# Altium integrated library Linear Technology Power Management Switching Regulator LTC1174-LTC3901.IntLib: 2647 symbols (part 133 of 364)
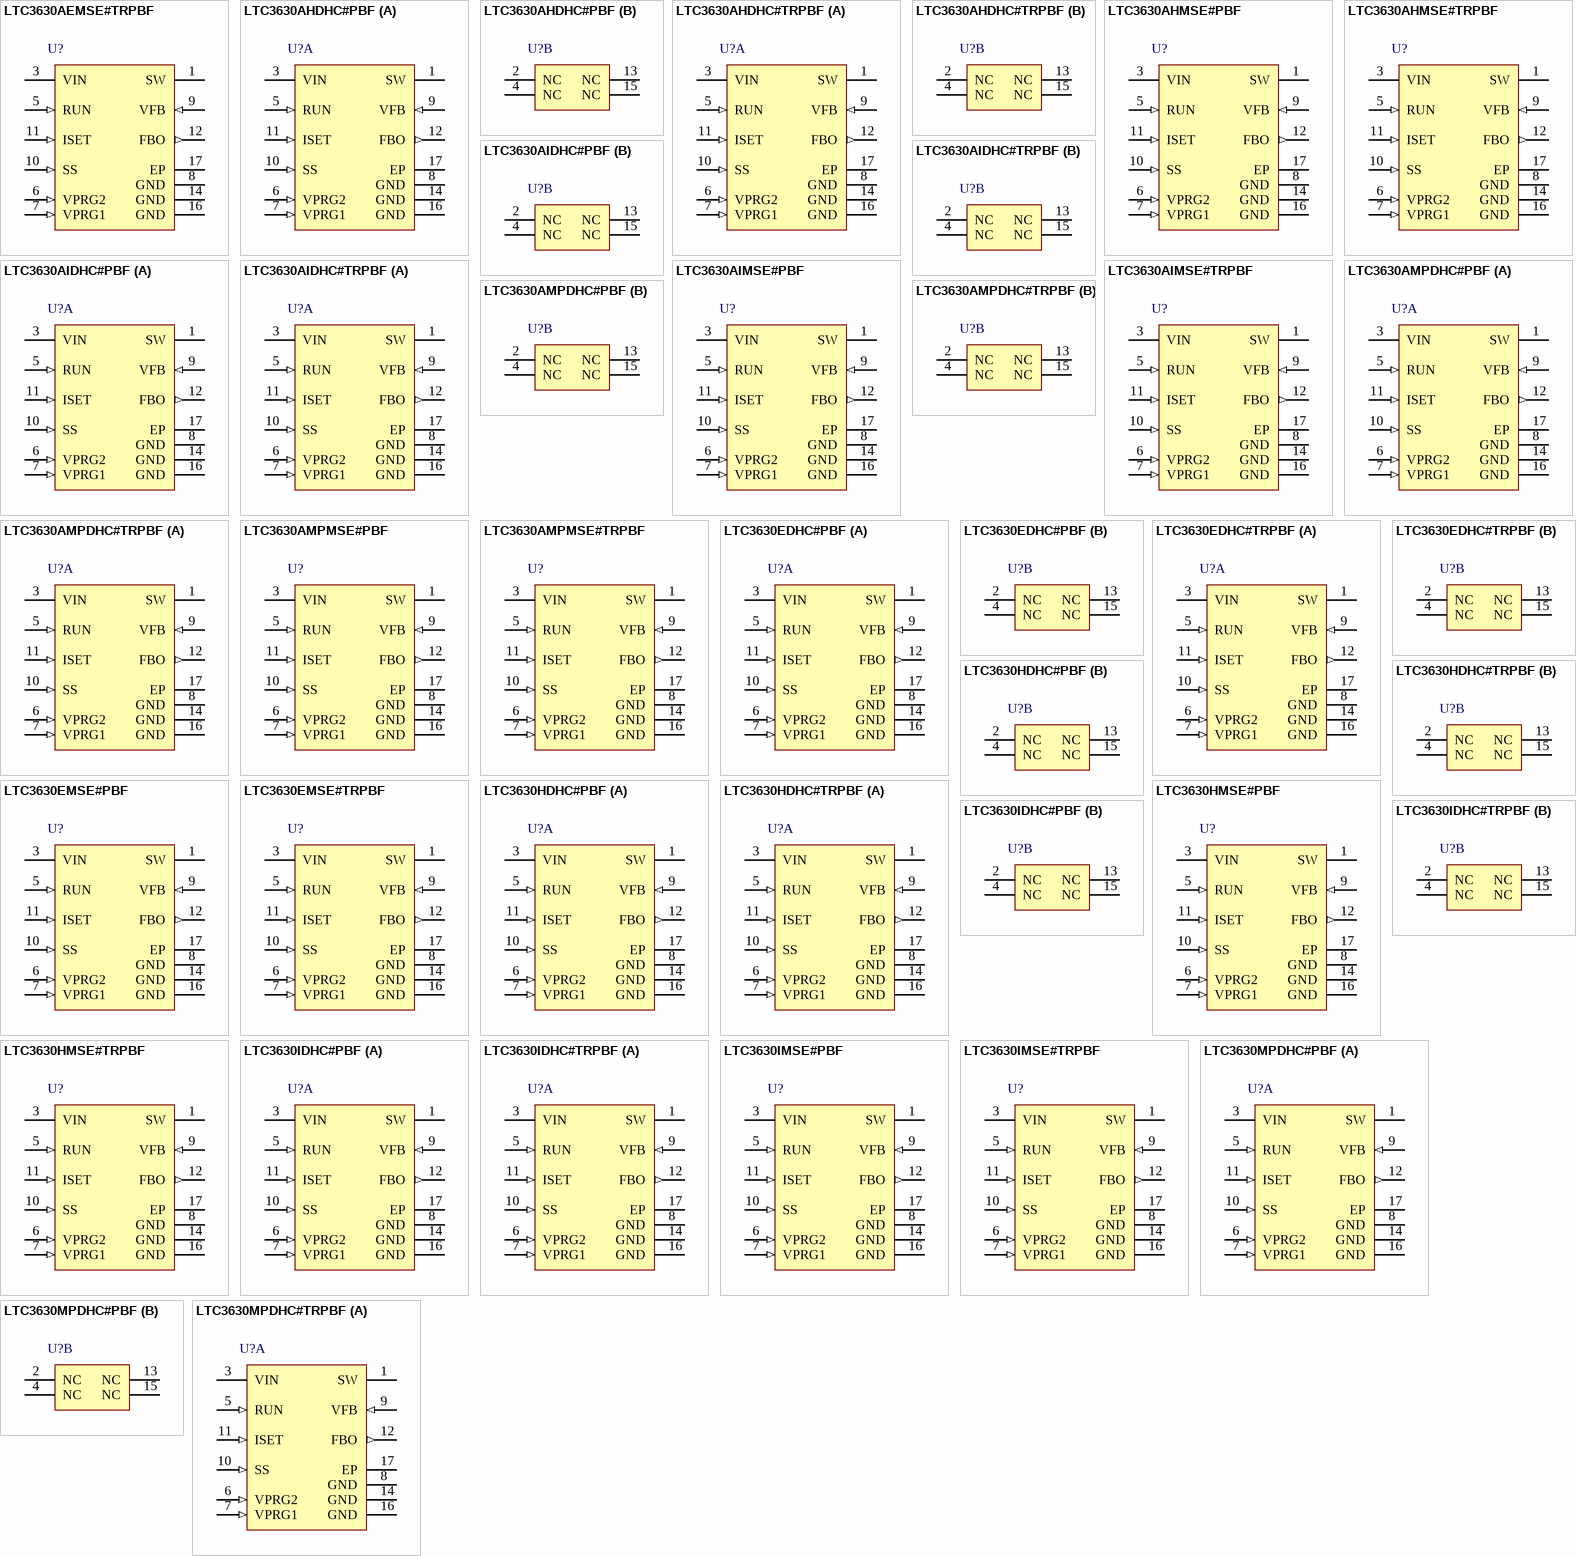
[diagram p183: symbols LTC3630AEMSE#TRPBF to LTC3630MPDHC#TRPBF]

## LTC3630AEMSE#TRPBF
designator U?
High Efficiency, 500 mA Step-Down Converter, 16-pin SOP (MSE-16-V(12)4PR-EDP), -40 to 125 degC, Pb-Free, Tape and Reel; Manufacturer: Linear Technology; PartNumber: LTC3630AEMSE#TRPBF; Number of Outputs: 1; DatasheetVersion: Rev. C; PackageVersion: Rev. D, 05/2013; PackageReference: MSE-16; PackageDescription: 12-Pin Plastic MSOP, Exposed Die Pad, Body 4.039 x 3 mm, Pitch 0.5 mm; Supplier 1: Digi-Key; Supplier Part Number 1: LTC3630AEMSE#TRPBF-ND; Supplier 2: Newark; Supplier Part Number 2: 95W3369; Packing: Tape and Reel; RoHS: TRUE; Mounting Technology: Surface Mount; ComponentLink1Description: Manufacturer URL; ComponentLink1URL: http://www.linear.com/; ComponentLink2Description: Datasheet; ComponentLink2URL: http://cds.linear.com/docs/en/datasheet/3630fc.pdf; ComponentLink3Description: Package Specification; ComponentLink3URL: http://cds.linear.com/docs/en/packaging/05081871_D_MSE16(12).pdf
footprint LT-MSE-16-V(12)4PR-EDP_N (SOP, 12-Leads, Body 4.1x3.1mm, Pitch 0.5mm, Thermal Pad 1.76x2.95mm, IPC Medium Density)
footprint LT-MSE-16-V(12)4PR-EDP_L (SOP, 12-Leads, Body 4.1x3.1mm, Pitch 0.5mm, Thermal Pad 1.76x2.95mm, IPC High Density)
footprint LT-MSE-16-V(12)4PR-EDP_M (SOP, 12-Leads, Body 4.1x3.1mm, Pitch 0.5mm, Thermal Pad 1.76x2.95mm, IPC Low Density)
pins: 1 SW (power) "Switch Node Connection to Inductor. This pin connects to the drains of the internal power MOSFET switches.", 3 VIN (power) "Main Input Supply Pin. A ceramic bypass capacitor should be tied between this pin and GND.", 5 RUN (in) "Run Control Input. A voltage on this pin above 1.21V enables normal operation. Forcing this pin below 0.7V shuts down the LTC3630, reducing quiescent current to approximately 5uA. Optionally, connect to the input supply (See Datasheet)", 6 VPRG2 (in) "Output Voltage Selection. Short both pins to ground for an external resistive divider programmable output voltage. Short VPRG1 to SS and short VPRG2 to ground for a 5V output voltage. Short VPRG1 to ground and short VPRG2 to (See Datasheet)", 7 VPRG1 (in) "Output Voltage Selection. Short both pins to ground for an external resistive divider programmable output voltage. Short VPRG1 to SS and short VPRG2 to ground for a 5V output voltage. Short VPRG1 to ground and short VPRG2 to (See Datasheet)", 8 GND (power) "Ground. The exposed backside pad must be soldered to the PCB ground plane for optimal thermal performance.", 9 VFB (in) "Output Voltage Feedback. When configured for an adjustable output voltage, connect to an external resistive divider to divide the output voltage down for comparison to the 0.8V reference. For the fixed output configuration, (See Datasheet)", 10 SS (in) "Soft-Start Control Input. A capacitor to ground at this pin sets the output voltage ramp time. A 50uA current initially charges the soft-start capacitor until switching begins, at which time the current is reduced to its (See Datasheet)", 11 ISET (in) "Peak Current Set Input and Voltage Output Ripple Filter. A resistor from this pin to ground sets the peak current comparator threshold. Leave floating for the maximum peak current (1.2A typical) or short to ground for (See Datasheet)", 12 FBO (out) "Feedback Comparator Output. Connect to the VFB pins of additional LTC3630s to combine the output current. The typical pull-up current is 20uA. The typical pull- down impedance is 70 ohm. See Applications Information.", 14 GND (power) "Ground. The exposed backside pad must be soldered to the PCB ground plane for optimal thermal performance.", 16 GND (power) "Ground. The exposed backside pad must be soldered to the PCB ground plane for optimal thermal performance.", 17 EP (power) "Ground. The exposed backside pad must be soldered to the PCB ground plane for optimal thermal performance."

## LTC3630AHDHC#PBF
designator U?
High Efficiency, 500 mA Step-Down Converter, 16-pin SON (DHC-16), -40 to 150 degC, Pb-Free; Manufacturer: Linear Technology; PartNumber: LTC3630AHDHC#PBF; Number of Outputs: 1; DatasheetVersion: Rev. C; PackageVersion: Jun-10; PackageReference: DHC-16; PackageDescription: 16-Pin Plastic DFN, Body 5 x 3 mm, Pitch 0.5 mm; Supplier 1: Digi-Key; Supplier Part Number 1: LTC3630AHDHC#PBF-ND; Supplier 2: Newark; Supplier Part Number 2: 95W3370; RoHS: TRUE; Mounting Technology: Surface Mount; Code_JEDEC: MO-229; ComponentLink1Description: Manufacturer URL; ComponentLink1URL: http://www.linear.com/; ComponentLink2Description: Datasheet; ComponentLink2URL: http://cds.linear.com/docs/en/datasheet/3630fc.pdf; ComponentLink3Description: Package Specification; ComponentLink3URL: http://cds.linear.com/docs/en/packaging/DFN_16_05-08-1706.pdf
footprint LT-DHC-16_V (SON, 16-Leads, Body 5x3mm, Pitch 0.5mm, Thermal Pad 4.4X1.65mm)
part A pins: 1 SW (power) "Switch Node Connection to Inductor. This pin connects to the drains of the internal power MOSFET switches.", 3 VIN (power) "Main Input Supply Pin. A ceramic bypass capacitor should be tied between this pin and GND.", 5 RUN (in) "Run Control Input. A voltage on this pin above 1.21V enables normal operation. Forcing this pin below 0.7V shuts down the LTC3630, reducing quiescent current to approximately 5uA. Optionally, connect to the input supply (See Datasheet)", 6 VPRG2 (in) "Output Voltage Selection. Short both pins to ground for an external resistive divider programmable output voltage. Short VPRG1 to SS and short VPRG2 to ground for a 5V output voltage. Short VPRG1 to ground and short VPRG2 to (See Datasheet)", 7 VPRG1 (in) "Output Voltage Selection. Short both pins to ground for an external resistive divider programmable output voltage. Short VPRG1 to SS and short VPRG2 to ground for a 5V output voltage. Short VPRG1 to ground and short VPRG2 to (See Datasheet)", 8 GND (power) "Ground. The exposed backside pad must be soldered to the PCB ground plane for optimal thermal performance.", 9 VFB (in) "Output Voltage Feedback. When configured for an adjustable output voltage, connect to an external resistive divider to divide the output voltage down for comparison to the 0.8V reference. For the fixed output configuration, (See Datasheet)", 10 SS (in) "Soft-Start Control Input. A capacitor to ground at this pin sets the output voltage ramp time. A 50uA current initially charges the soft-start capacitor until switching begins, at which time the current is reduced to its (See Datasheet)", 11 ISET (in) "Peak Current Set Input and Voltage Output Ripple Filter. A resistor from this pin to ground sets the peak current comparator threshold. Leave floating for the maximum peak current (1.2A typical) or short to ground for (See Datasheet)", 12 FBO (out) "Feedback Comparator Output. Connect to the VFB pins of additional LTC3630s to combine the output current. The typical pull-up current is 20uA. The typical pull- down impedance is 70 ohm. See Applications Information.", 14 GND (power) "Ground. The exposed backside pad must be soldered to the PCB ground plane for optimal thermal performance.", 16 GND (power) "Ground. The exposed backside pad must be soldered to the PCB ground plane for optimal thermal performance.", 17 EP (power) "Ground. The exposed backside pad must be soldered to the PCB ground plane for optimal thermal performance."
part B pins: 2 NC "No Internal Connection. Leave these pins open.", 4 NC "No Internal Connection. Leave these pins open.", 13 NC "No Internal Connection. Leave these pins open.", 15 NC "No Internal Connection. Leave these pins open."

## LTC3630AHDHC#TRPBF
designator U?
High Efficiency, 500 mA Step-Down Converter, 16-pin SON (DHC-16), -40 to 150 degC, Pb-Free, Tape and Reel; Manufacturer: Linear Technology; PartNumber: LTC3630AHDHC#TRPBF; Number of Outputs: 1; DatasheetVersion: Rev. C; PackageVersion: Jun-10; PackageReference: DHC-16; PackageDescription: 16-Pin Plastic DFN, Body 5 x 3 mm, Pitch 0.5 mm; Supplier 1: Digi-Key; Supplier Part Number 1: LTC3630AHDHC#TRPBF-ND; Supplier 2: Newark; Supplier Part Number 2: 95W3371; Packing: Tape and Reel; RoHS: TRUE; Mounting Technology: Surface Mount; Code_JEDEC: MO-229; ComponentLink1Description: Manufacturer URL; ComponentLink1URL: http://www.linear.com/; ComponentLink2Description: Datasheet; ComponentLink2URL: http://cds.linear.com/docs/en/datasheet/3630fc.pdf; ComponentLink3Description: Package Specification; ComponentLink3URL: http://cds.linear.com/docs/en/packaging/DFN_16_05-08-1706.pdf
footprint LT-DHC-16_V (SON, 16-Leads, Body 5x3mm, Pitch 0.5mm, Thermal Pad 4.4X1.65mm)
part A pins: 1 SW (power) "Switch Node Connection to Inductor. This pin connects to the drains of the internal power MOSFET switches.", 3 VIN (power) "Main Input Supply Pin. A ceramic bypass capacitor should be tied between this pin and GND.", 5 RUN (in) "Run Control Input. A voltage on this pin above 1.21V enables normal operation. Forcing this pin below 0.7V shuts down the LTC3630, reducing quiescent current to approximately 5uA. Optionally, connect to the input supply (See Datasheet)", 6 VPRG2 (in) "Output Voltage Selection. Short both pins to ground for an external resistive divider programmable output voltage. Short VPRG1 to SS and short VPRG2 to ground for a 5V output voltage. Short VPRG1 to ground and short VPRG2 to (See Datasheet)", 7 VPRG1 (in) "Output Voltage Selection. Short both pins to ground for an external resistive divider programmable output voltage. Short VPRG1 to SS and short VPRG2 to ground for a 5V output voltage. Short VPRG1 to ground and short VPRG2 to (See Datasheet)", 8 GND (power) "Ground. The exposed backside pad must be soldered to the PCB ground plane for optimal thermal performance.", 9 VFB (in) "Output Voltage Feedback. When configured for an adjustable output voltage, connect to an external resistive divider to divide the output voltage down for comparison to the 0.8V reference. For the fixed output configuration, (See Datasheet)", 10 SS (in) "Soft-Start Control Input. A capacitor to ground at this pin sets the output voltage ramp time. A 50uA current initially charges the soft-start capacitor until switching begins, at which time the current is reduced to its (See Datasheet)", 11 ISET (in) "Peak Current Set Input and Voltage Output Ripple Filter. A resistor from this pin to ground sets the peak current comparator threshold. Leave floating for the maximum peak current (1.2A typical) or short to ground for (See Datasheet)", 12 FBO (out) "Feedback Comparator Output. Connect to the VFB pins of additional LTC3630s to combine the output current. The typical pull-up current is 20uA. The typical pull- down impedance is 70 ohm. See Applications Information.", 14 GND (power) "Ground. The exposed backside pad must be soldered to the PCB ground plane for optimal thermal performance.", 16 GND (power) "Ground. The exposed backside pad must be soldered to the PCB ground plane for optimal thermal performance.", 17 EP (power) "Ground. The exposed backside pad must be soldered to the PCB ground plane for optimal thermal performance."
part B pins: 2 NC "No Internal Connection. Leave these pins open.", 4 NC "No Internal Connection. Leave these pins open.", 13 NC "No Internal Connection. Leave these pins open.", 15 NC "No Internal Connection. Leave these pins open."

## LTC3630AHMSE#PBF
designator U?
High Efficiency, 500 mA Step-Down Converter, 16-pin SOP (MSE-16-V(12)4PR-EDP), -40 to 150 degC, Pb-Free; Manufacturer: Linear Technology; PartNumber: LTC3630AHMSE#PBF; Number of Outputs: 1; DatasheetVersion: Rev. C; PackageVersion: Rev. D, 05/2013; PackageReference: MSE-16; PackageDescription: 12-Pin Plastic MSOP, Exposed Die Pad, Body 4.039 x 3 mm, Pitch 0.5 mm; Supplier 1: Digi-Key; Supplier Part Number 1: LTC3630AHMSE#PBF-ND; Supplier 2: Newark; Supplier Part Number 2: 95W3372; RoHS: TRUE; Mounting Technology: Surface Mount; ComponentLink1Description: Manufacturer URL; ComponentLink1URL: http://www.linear.com/; ComponentLink2Description: Datasheet; ComponentLink2URL: http://cds.linear.com/docs/en/datasheet/3630fc.pdf; ComponentLink3Description: Package Specification; ComponentLink3URL: http://cds.linear.com/docs/en/packaging/05081871_D_MSE16(12).pdf
footprint LT-MSE-16-V(12)4PR-EDP_N (SOP, 12-Leads, Body 4.1x3.1mm, Pitch 0.5mm, Thermal Pad 1.76x2.95mm, IPC Medium Density)
footprint LT-MSE-16-V(12)4PR-EDP_L (SOP, 12-Leads, Body 4.1x3.1mm, Pitch 0.5mm, Thermal Pad 1.76x2.95mm, IPC High Density)
footprint LT-MSE-16-V(12)4PR-EDP_M (SOP, 12-Leads, Body 4.1x3.1mm, Pitch 0.5mm, Thermal Pad 1.76x2.95mm, IPC Low Density)
pins: 1 SW (power) "Switch Node Connection to Inductor. This pin connects to the drains of the internal power MOSFET switches.", 3 VIN (power) "Main Input Supply Pin. A ceramic bypass capacitor should be tied between this pin and GND.", 5 RUN (in) "Run Control Input. A voltage on this pin above 1.21V enables normal operation. Forcing this pin below 0.7V shuts down the LTC3630, reducing quiescent current to approximately 5uA. Optionally, connect to the input supply (See Datasheet)", 6 VPRG2 (in) "Output Voltage Selection. Short both pins to ground for an external resistive divider programmable output voltage. Short VPRG1 to SS and short VPRG2 to ground for a 5V output voltage. Short VPRG1 to ground and short VPRG2 to (See Datasheet)", 7 VPRG1 (in) "Output Voltage Selection. Short both pins to ground for an external resistive divider programmable output voltage. Short VPRG1 to SS and short VPRG2 to ground for a 5V output voltage. Short VPRG1 to ground and short VPRG2 to (See Datasheet)", 8 GND (power) "Ground. The exposed backside pad must be soldered to the PCB ground plane for optimal thermal performance.", 9 VFB (in) "Output Voltage Feedback. When configured for an adjustable output voltage, connect to an external resistive divider to divide the output voltage down for comparison to the 0.8V reference. For the fixed output configuration, (See Datasheet)", 10 SS (in) "Soft-Start Control Input. A capacitor to ground at this pin sets the output voltage ramp time. A 50uA current initially charges the soft-start capacitor until switching begins, at which time the current is reduced to its (See Datasheet)", 11 ISET (in) "Peak Current Set Input and Voltage Output Ripple Filter. A resistor from this pin to ground sets the peak current comparator threshold. Leave floating for the maximum peak current (1.2A typical) or short to ground for (See Datasheet)", 12 FBO (out) "Feedback Comparator Output. Connect to the VFB pins of additional LTC3630s to combine the output current. The typical pull-up current is 20uA. The typical pull- down impedance is 70 ohm. See Applications Information.", 14 GND (power) "Ground. The exposed backside pad must be soldered to the PCB ground plane for optimal thermal performance.", 16 GND (power) "Ground. The exposed backside pad must be soldered to the PCB ground plane for optimal thermal performance.", 17 EP (power) "Ground. The exposed backside pad must be soldered to the PCB ground plane for optimal thermal performance."

## LTC3630AHMSE#TRPBF
designator U?
High Efficiency, 500 mA Step-Down Converter, 16-pin SOP (MSE-16-V(12)4PR-EDP), -40 to 150 degC, Pb-Free, Tape and Reel; Manufacturer: Linear Technology; PartNumber: LTC3630AHMSE#TRPBF; Number of Outputs: 1; DatasheetVersion: Rev. C; PackageVersion: Rev. D, 05/2013; PackageReference: MSE-16; PackageDescription: 12-Pin Plastic MSOP, Exposed Die Pad, Body 4.039 x 3 mm, Pitch 0.5 mm; Supplier 1: Digi-Key; Supplier Part Number 1: LTC3630AHMSE#TRPBF-ND; Supplier 2: Newark; Supplier Part Number 2: 95W3373; Packing: Tape and Reel; RoHS: TRUE; Mounting Technology: Surface Mount; ComponentLink1Description: Manufacturer URL; ComponentLink1URL: http://www.linear.com/; ComponentLink2Description: Datasheet; ComponentLink2URL: http://cds.linear.com/docs/en/datasheet/3630fc.pdf; ComponentLink3Description: Package Specification; ComponentLink3URL: http://cds.linear.com/docs/en/packaging/05081871_D_MSE16(12).pdf
footprint LT-MSE-16-V(12)4PR-EDP_N (SOP, 12-Leads, Body 4.1x3.1mm, Pitch 0.5mm, Thermal Pad 1.76x2.95mm, IPC Medium Density)
footprint LT-MSE-16-V(12)4PR-EDP_L (SOP, 12-Leads, Body 4.1x3.1mm, Pitch 0.5mm, Thermal Pad 1.76x2.95mm, IPC High Density)
footprint LT-MSE-16-V(12)4PR-EDP_M (SOP, 12-Leads, Body 4.1x3.1mm, Pitch 0.5mm, Thermal Pad 1.76x2.95mm, IPC Low Density)
pins: 1 SW (power) "Switch Node Connection to Inductor. This pin connects to the drains of the internal power MOSFET switches.", 3 VIN (power) "Main Input Supply Pin. A ceramic bypass capacitor should be tied between this pin and GND.", 5 RUN (in) "Run Control Input. A voltage on this pin above 1.21V enables normal operation. Forcing this pin below 0.7V shuts down the LTC3630, reducing quiescent current to approximately 5uA. Optionally, connect to the input supply (See Datasheet)", 6 VPRG2 (in) "Output Voltage Selection. Short both pins to ground for an external resistive divider programmable output voltage. Short VPRG1 to SS and short VPRG2 to ground for a 5V output voltage. Short VPRG1 to ground and short VPRG2 to (See Datasheet)", 7 VPRG1 (in) "Output Voltage Selection. Short both pins to ground for an external resistive divider programmable output voltage. Short VPRG1 to SS and short VPRG2 to ground for a 5V output voltage. Short VPRG1 to ground and short VPRG2 to (See Datasheet)", 8 GND (power) "Ground. The exposed backside pad must be soldered to the PCB ground plane for optimal thermal performance.", 9 VFB (in) "Output Voltage Feedback. When configured for an adjustable output voltage, connect to an external resistive divider to divide the output voltage down for comparison to the 0.8V reference. For the fixed output configuration, (See Datasheet)", 10 SS (in) "Soft-Start Control Input. A capacitor to ground at this pin sets the output voltage ramp time. A 50uA current initially charges the soft-start capacitor until switching begins, at which time the current is reduced to its (See Datasheet)", 11 ISET (in) "Peak Current Set Input and Voltage Output Ripple Filter. A resistor from this pin to ground sets the peak current comparator threshold. Leave floating for the maximum peak current (1.2A typical) or short to ground for (See Datasheet)", 12 FBO (out) "Feedback Comparator Output. Connect to the VFB pins of additional LTC3630s to combine the output current. The typical pull-up current is 20uA. The typical pull- down impedance is 70 ohm. See Applications Information.", 14 GND (power) "Ground. The exposed backside pad must be soldered to the PCB ground plane for optimal thermal performance.", 16 GND (power) "Ground. The exposed backside pad must be soldered to the PCB ground plane for optimal thermal performance.", 17 EP (power) "Ground. The exposed backside pad must be soldered to the PCB ground plane for optimal thermal performance."

## LTC3630AIDHC#PBF
designator U?
High Efficiency, 500 mA Step-Down Converter, 16-pin SON (DHC-16), -40 to 125 degC, Pb-Free; Manufacturer: Linear Technology; PartNumber: LTC3630AIDHC#PBF; Number of Outputs: 1; DatasheetVersion: Rev. C; PackageVersion: Jun-10; PackageReference: DHC-16; PackageDescription: 16-Pin Plastic DFN, Body 5 x 3 mm, Pitch 0.5 mm; Supplier 1: Digi-Key; Supplier Part Number 1: LTC3630AIDHC#PBF-ND; Supplier 2: Newark; Supplier Part Number 2: 95W3374; RoHS: TRUE; Mounting Technology: Surface Mount; Code_JEDEC: MO-229; ComponentLink1Description: Manufacturer URL; ComponentLink1URL: http://www.linear.com/; ComponentLink2Description: Datasheet; ComponentLink2URL: http://cds.linear.com/docs/en/datasheet/3630fc.pdf; ComponentLink3Description: Package Specification; ComponentLink3URL: http://cds.linear.com/docs/en/packaging/DFN_16_05-08-1706.pdf
footprint LT-DHC-16_V (SON, 16-Leads, Body 5x3mm, Pitch 0.5mm, Thermal Pad 4.4X1.65mm)
part A pins: 1 SW (power) "Switch Node Connection to Inductor. This pin connects to the drains of the internal power MOSFET switches.", 3 VIN (power) "Main Input Supply Pin. A ceramic bypass capacitor should be tied between this pin and GND.", 5 RUN (in) "Run Control Input. A voltage on this pin above 1.21V enables normal operation. Forcing this pin below 0.7V shuts down the LTC3630, reducing quiescent current to approximately 5uA. Optionally, connect to the input supply (See Datasheet)", 6 VPRG2 (in) "Output Voltage Selection. Short both pins to ground for an external resistive divider programmable output voltage. Short VPRG1 to SS and short VPRG2 to ground for a 5V output voltage. Short VPRG1 to ground and short VPRG2 to (See Datasheet)", 7 VPRG1 (in) "Output Voltage Selection. Short both pins to ground for an external resistive divider programmable output voltage. Short VPRG1 to SS and short VPRG2 to ground for a 5V output voltage. Short VPRG1 to ground and short VPRG2 to (See Datasheet)", 8 GND (power) "Ground. The exposed backside pad must be soldered to the PCB ground plane for optimal thermal performance.", 9 VFB (in) "Output Voltage Feedback. When configured for an adjustable output voltage, connect to an external resistive divider to divide the output voltage down for comparison to the 0.8V reference. For the fixed output configuration, (See Datasheet)", 10 SS (in) "Soft-Start Control Input. A capacitor to ground at this pin sets the output voltage ramp time. A 50uA current initially charges the soft-start capacitor until switching begins, at which time the current is reduced to its (See Datasheet)", 11 ISET (in) "Peak Current Set Input and Voltage Output Ripple Filter. A resistor from this pin to ground sets the peak current comparator threshold. Leave floating for the maximum peak current (1.2A typical) or short to ground for (See Datasheet)", 12 FBO (out) "Feedback Comparator Output. Connect to the VFB pins of additional LTC3630s to combine the output current. The typical pull-up current is 20uA. The typical pull- down impedance is 70 ohm. See Applications Information.", 14 GND (power) "Ground. The exposed backside pad must be soldered to the PCB ground plane for optimal thermal performance.", 16 GND (power) "Ground. The exposed backside pad must be soldered to the PCB ground plane for optimal thermal performance.", 17 EP (power) "Ground. The exposed backside pad must be soldered to the PCB ground plane for optimal thermal performance."
part B pins: 2 NC "No Internal Connection. Leave these pins open.", 4 NC "No Internal Connection. Leave these pins open.", 13 NC "No Internal Connection. Leave these pins open.", 15 NC "No Internal Connection. Leave these pins open."

## LTC3630AIDHC#TRPBF
designator U?
High Efficiency, 500 mA Step-Down Converter, 16-pin SON (DHC-16), -40 to 125 degC, Pb-Free, Tape and Reel; Manufacturer: Linear Technology; PartNumber: LTC3630AIDHC#TRPBF; Number of Outputs: 1; DatasheetVersion: Rev. C; PackageVersion: Jun-10; PackageReference: DHC-16; PackageDescription: 16-Pin Plastic DFN, Body 5 x 3 mm, Pitch 0.5 mm; Supplier 1: Digi-Key; Supplier Part Number 1: LTC3630AIDHC#TRPBF-ND; Supplier 2: Newark; Supplier Part Number 2: 95W3375; Packing: Tape and Reel; RoHS: TRUE; Mounting Technology: Surface Mount; Code_JEDEC: MO-229; ComponentLink1Description: Manufacturer URL; ComponentLink1URL: http://www.linear.com/; ComponentLink2Description: Datasheet; ComponentLink2URL: http://cds.linear.com/docs/en/datasheet/3630fc.pdf; ComponentLink3Description: Package Specification; ComponentLink3URL: http://cds.linear.com/docs/en/packaging/DFN_16_05-08-1706.pdf
footprint LT-DHC-16_V (SON, 16-Leads, Body 5x3mm, Pitch 0.5mm, Thermal Pad 4.4X1.65mm)
part A pins: 1 SW (power) "Switch Node Connection to Inductor. This pin connects to the drains of the internal power MOSFET switches.", 3 VIN (power) "Main Input Supply Pin. A ceramic bypass capacitor should be tied between this pin and GND.", 5 RUN (in) "Run Control Input. A voltage on this pin above 1.21V enables normal operation. Forcing this pin below 0.7V shuts down the LTC3630, reducing quiescent current to approximately 5uA. Optionally, connect to the input supply (See Datasheet)", 6 VPRG2 (in) "Output Voltage Selection. Short both pins to ground for an external resistive divider programmable output voltage. Short VPRG1 to SS and short VPRG2 to ground for a 5V output voltage. Short VPRG1 to ground and short VPRG2 to (See Datasheet)", 7 VPRG1 (in) "Output Voltage Selection. Short both pins to ground for an external resistive divider programmable output voltage. Short VPRG1 to SS and short VPRG2 to ground for a 5V output voltage. Short VPRG1 to ground and short VPRG2 to (See Datasheet)", 8 GND (power) "Ground. The exposed backside pad must be soldered to the PCB ground plane for optimal thermal performance.", 9 VFB (in) "Output Voltage Feedback. When configured for an adjustable output voltage, connect to an external resistive divider to divide the output voltage down for comparison to the 0.8V reference. For the fixed output configuration, (See Datasheet)", 10 SS (in) "Soft-Start Control Input. A capacitor to ground at this pin sets the output voltage ramp time. A 50uA current initially charges the soft-start capacitor until switching begins, at which time the current is reduced to its (See Datasheet)", 11 ISET (in) "Peak Current Set Input and Voltage Output Ripple Filter. A resistor from this pin to ground sets the peak current comparator threshold. Leave floating for the maximum peak current (1.2A typical) or short to ground for (See Datasheet)", 12 FBO (out) "Feedback Comparator Output. Connect to the VFB pins of additional LTC3630s to combine the output current. The typical pull-up current is 20uA. The typical pull- down impedance is 70 ohm. See Applications Information.", 14 GND (power) "Ground. The exposed backside pad must be soldered to the PCB ground plane for optimal thermal performance.", 16 GND (power) "Ground. The exposed backside pad must be soldered to the PCB ground plane for optimal thermal performance.", 17 EP (power) "Ground. The exposed backside pad must be soldered to the PCB ground plane for optimal thermal performance."
part B pins: 2 NC "No Internal Connection. Leave these pins open.", 4 NC "No Internal Connection. Leave these pins open.", 13 NC "No Internal Connection. Leave these pins open.", 15 NC "No Internal Connection. Leave these pins open."

## LTC3630AIMSE#PBF
designator U?
High Efficiency, 500 mA Step-Down Converter, 16-pin SOP (MSE-16-V(12)4PR-EDP), -40 to 125 degC, Pb-Free; Manufacturer: Linear Technology; PartNumber: LTC3630AIMSE#PBF; Number of Outputs: 1; DatasheetVersion: Rev. C; PackageVersion: Rev. D, 05/2013; PackageReference: MSE-16; PackageDescription: 12-Pin Plastic MSOP, Exposed Die Pad, Body 4.039 x 3 mm, Pitch 0.5 mm; Supplier 1: Digi-Key; Supplier Part Number 1: LTC3630AIMSE#PBF-ND; Supplier 2: Newark; Supplier Part Number 2: 95W3376; RoHS: TRUE; Mounting Technology: Surface Mount; ComponentLink1Description: Manufacturer URL; ComponentLink1URL: http://www.linear.com/; ComponentLink2Description: Datasheet; ComponentLink2URL: http://cds.linear.com/docs/en/datasheet/3630fc.pdf; ComponentLink3Description: Package Specification; ComponentLink3URL: http://cds.linear.com/docs/en/packaging/05081871_D_MSE16(12).pdf
footprint LT-MSE-16-V(12)4PR-EDP_N (SOP, 12-Leads, Body 4.1x3.1mm, Pitch 0.5mm, Thermal Pad 1.76x2.95mm, IPC Medium Density)
footprint LT-MSE-16-V(12)4PR-EDP_L (SOP, 12-Leads, Body 4.1x3.1mm, Pitch 0.5mm, Thermal Pad 1.76x2.95mm, IPC High Density)
footprint LT-MSE-16-V(12)4PR-EDP_M (SOP, 12-Leads, Body 4.1x3.1mm, Pitch 0.5mm, Thermal Pad 1.76x2.95mm, IPC Low Density)
pins: 1 SW (power) "Switch Node Connection to Inductor. This pin connects to the drains of the internal power MOSFET switches.", 3 VIN (power) "Main Input Supply Pin. A ceramic bypass capacitor should be tied between this pin and GND.", 5 RUN (in) "Run Control Input. A voltage on this pin above 1.21V enables normal operation. Forcing this pin below 0.7V shuts down the LTC3630, reducing quiescent current to approximately 5uA. Optionally, connect to the input supply (See Datasheet)", 6 VPRG2 (in) "Output Voltage Selection. Short both pins to ground for an external resistive divider programmable output voltage. Short VPRG1 to SS and short VPRG2 to ground for a 5V output voltage. Short VPRG1 to ground and short VPRG2 to (See Datasheet)", 7 VPRG1 (in) "Output Voltage Selection. Short both pins to ground for an external resistive divider programmable output voltage. Short VPRG1 to SS and short VPRG2 to ground for a 5V output voltage. Short VPRG1 to ground and short VPRG2 to (See Datasheet)", 8 GND (power) "Ground. The exposed backside pad must be soldered to the PCB ground plane for optimal thermal performance.", 9 VFB (in) "Output Voltage Feedback. When configured for an adjustable output voltage, connect to an external resistive divider to divide the output voltage down for comparison to the 0.8V reference. For the fixed output configuration, (See Datasheet)", 10 SS (in) "Soft-Start Control Input. A capacitor to ground at this pin sets the output voltage ramp time. A 50uA current initially charges the soft-start capacitor until switching begins, at which time the current is reduced to its (See Datasheet)", 11 ISET (in) "Peak Current Set Input and Voltage Output Ripple Filter. A resistor from this pin to ground sets the peak current comparator threshold. Leave floating for the maximum peak current (1.2A typical) or short to ground for (See Datasheet)", 12 FBO (out) "Feedback Comparator Output. Connect to the VFB pins of additional LTC3630s to combine the output current. The typical pull-up current is 20uA. The typical pull- down impedance is 70 ohm. See Applications Information.", 14 GND (power) "Ground. The exposed backside pad must be soldered to the PCB ground plane for optimal thermal performance.", 16 GND (power) "Ground. The exposed backside pad must be soldered to the PCB ground plane for optimal thermal performance.", 17 EP (power) "Ground. The exposed backside pad must be soldered to the PCB ground plane for optimal thermal performance."

## LTC3630AIMSE#TRPBF
designator U?
High Efficiency, 500 mA Step-Down Converter, 16-pin SOP (MSE-16-V(12)4PR-EDP), -40 to 125 degC, Pb-Free, Tape and Reel; Manufacturer: Linear Technology; PartNumber: LTC3630AIMSE#TRPBF; Number of Outputs: 1; DatasheetVersion: Rev. C; PackageVersion: Rev. D, 05/2013; PackageReference: MSE-16; PackageDescription: 12-Pin Plastic MSOP, Exposed Die Pad, Body 4.039 x 3 mm, Pitch 0.5 mm; Supplier 1: Digi-Key; Supplier Part Number 1: LTC3630AIMSE#TRPBF-ND; Supplier 2: Newark; Supplier Part Number 2: 95W3377; Packing: Tape and Reel; RoHS: TRUE; Mounting Technology: Surface Mount; ComponentLink1Description: Manufacturer URL; ComponentLink1URL: http://www.linear.com/; ComponentLink2Description: Datasheet; ComponentLink2URL: http://cds.linear.com/docs/en/datasheet/3630fc.pdf; ComponentLink3Description: Package Specification; ComponentLink3URL: http://cds.linear.com/docs/en/packaging/05081871_D_MSE16(12).pdf
footprint LT-MSE-16-V(12)4PR-EDP_N (SOP, 12-Leads, Body 4.1x3.1mm, Pitch 0.5mm, Thermal Pad 1.76x2.95mm, IPC Medium Density)
footprint LT-MSE-16-V(12)4PR-EDP_L (SOP, 12-Leads, Body 4.1x3.1mm, Pitch 0.5mm, Thermal Pad 1.76x2.95mm, IPC High Density)
footprint LT-MSE-16-V(12)4PR-EDP_M (SOP, 12-Leads, Body 4.1x3.1mm, Pitch 0.5mm, Thermal Pad 1.76x2.95mm, IPC Low Density)
pins: 1 SW (power) "Switch Node Connection to Inductor. This pin connects to the drains of the internal power MOSFET switches.", 3 VIN (power) "Main Input Supply Pin. A ceramic bypass capacitor should be tied between this pin and GND.", 5 RUN (in) "Run Control Input. A voltage on this pin above 1.21V enables normal operation. Forcing this pin below 0.7V shuts down the LTC3630, reducing quiescent current to approximately 5uA. Optionally, connect to the input supply (See Datasheet)", 6 VPRG2 (in) "Output Voltage Selection. Short both pins to ground for an external resistive divider programmable output voltage. Short VPRG1 to SS and short VPRG2 to ground for a 5V output voltage. Short VPRG1 to ground and short VPRG2 to (See Datasheet)", 7 VPRG1 (in) "Output Voltage Selection. Short both pins to ground for an external resistive divider programmable output voltage. Short VPRG1 to SS and short VPRG2 to ground for a 5V output voltage. Short VPRG1 to ground and short VPRG2 to (See Datasheet)", 8 GND (power) "Ground. The exposed backside pad must be soldered to the PCB ground plane for optimal thermal performance.", 9 VFB (in) "Output Voltage Feedback. When configured for an adjustable output voltage, connect to an external resistive divider to divide the output voltage down for comparison to the 0.8V reference. For the fixed output configuration, (See Datasheet)", 10 SS (in) "Soft-Start Control Input. A capacitor to ground at this pin sets the output voltage ramp time. A 50uA current initially charges the soft-start capacitor until switching begins, at which time the current is reduced to its (See Datasheet)", 11 ISET (in) "Peak Current Set Input and Voltage Output Ripple Filter. A resistor from this pin to ground sets the peak current comparator threshold. Leave floating for the maximum peak current (1.2A typical) or short to ground for (See Datasheet)", 12 FBO (out) "Feedback Comparator Output. Connect to the VFB pins of additional LTC3630s to combine the output current. The typical pull-up current is 20uA. The typical pull- down impedance is 70 ohm. See Applications Information.", 14 GND (power) "Ground. The exposed backside pad must be soldered to the PCB ground plane for optimal thermal performance.", 16 GND (power) "Ground. The exposed backside pad must be soldered to the PCB ground plane for optimal thermal performance.", 17 EP (power) "Ground. The exposed backside pad must be soldered to the PCB ground plane for optimal thermal performance."

## LTC3630AMPDHC#PBF
designator U?
High Efficiency, 500 mA Step-Down Converter, 16-pin SON (DHC-16), -55 to 150 degC, Pb-Free; Manufacturer: Linear Technology; PartNumber: LTC3630AMPDHC#PBF; Number of Outputs: 1; DatasheetVersion: Rev. C; PackageVersion: Jun-10; PackageReference: DHC-16; PackageDescription: 16-Pin Plastic DFN, Body 5 x 3 mm, Pitch 0.5 mm; Supplier 1: Digi-Key; Supplier Part Number 1: LTC3630AMPDHC#PBF-ND; Supplier 2: Newark; Supplier Part Number 2: 95W3378; RoHS: TRUE; Mounting Technology: Surface Mount; Code_JEDEC: MO-229; ComponentLink1Description: Manufacturer URL; ComponentLink1URL: http://www.linear.com/; ComponentLink2Description: Datasheet; ComponentLink2URL: http://cds.linear.com/docs/en/datasheet/3630fc.pdf; ComponentLink3Description: Package Specification; ComponentLink3URL: http://cds.linear.com/docs/en/packaging/DFN_16_05-08-1706.pdf
footprint LT-DHC-16_V (SON, 16-Leads, Body 5x3mm, Pitch 0.5mm, Thermal Pad 4.4X1.65mm)
part A pins: 1 SW (power) "Switch Node Connection to Inductor. This pin connects to the drains of the internal power MOSFET switches.", 3 VIN (power) "Main Input Supply Pin. A ceramic bypass capacitor should be tied between this pin and GND.", 5 RUN (in) "Run Control Input. A voltage on this pin above 1.21V enables normal operation. Forcing this pin below 0.7V shuts down the LTC3630, reducing quiescent current to approximately 5uA. Optionally, connect to the input supply (See Datasheet)", 6 VPRG2 (in) "Output Voltage Selection. Short both pins to ground for an external resistive divider programmable output voltage. Short VPRG1 to SS and short VPRG2 to ground for a 5V output voltage. Short VPRG1 to ground and short VPRG2 to (See Datasheet)", 7 VPRG1 (in) "Output Voltage Selection. Short both pins to ground for an external resistive divider programmable output voltage. Short VPRG1 to SS and short VPRG2 to ground for a 5V output voltage. Short VPRG1 to ground and short VPRG2 to (See Datasheet)", 8 GND (power) "Ground. The exposed backside pad must be soldered to the PCB ground plane for optimal thermal performance.", 9 VFB (in) "Output Voltage Feedback. When configured for an adjustable output voltage, connect to an external resistive divider to divide the output voltage down for comparison to the 0.8V reference. For the fixed output configuration, (See Datasheet)", 10 SS (in) "Soft-Start Control Input. A capacitor to ground at this pin sets the output voltage ramp time. A 50uA current initially charges the soft-start capacitor until switching begins, at which time the current is reduced to its (See Datasheet)", 11 ISET (in) "Peak Current Set Input and Voltage Output Ripple Filter. A resistor from this pin to ground sets the peak current comparator threshold. Leave floating for the maximum peak current (1.2A typical) or short to ground for (See Datasheet)", 12 FBO (out) "Feedback Comparator Output. Connect to the VFB pins of additional LTC3630s to combine the output current. The typical pull-up current is 20uA. The typical pull- down impedance is 70 ohm. See Applications Information.", 14 GND (power) "Ground. The exposed backside pad must be soldered to the PCB ground plane for optimal thermal performance.", 16 GND (power) "Ground. The exposed backside pad must be soldered to the PCB ground plane for optimal thermal performance.", 17 EP (power) "Ground. The exposed backside pad must be soldered to the PCB ground plane for optimal thermal performance."
part B pins: 2 NC "No Internal Connection. Leave these pins open.", 4 NC "No Internal Connection. Leave these pins open.", 13 NC "No Internal Connection. Leave these pins open.", 15 NC "No Internal Connection. Leave these pins open."

## LTC3630AMPDHC#TRPBF
designator U?
High Efficiency, 500 mA Step-Down Converter, 16-pin SON (DHC-16), -55 to 150 degC, Pb-Free, Tape and Reel; Manufacturer: Linear Technology; PartNumber: LTC3630AMPDHC#TRPBF; Number of Outputs: 1; DatasheetVersion: Rev. C; PackageVersion: Jun-10; PackageReference: DHC-16; PackageDescription: 16-Pin Plastic DFN, Body 5 x 3 mm, Pitch 0.5 mm; Supplier 1: Digi-Key; Supplier Part Number 1: LTC3630AMPDHC#TRPBF-ND; Supplier 2: Newark; Supplier Part Number 2: 95W3379; Packing: Tape and Reel; RoHS: TRUE; Mounting Technology: Surface Mount; Code_JEDEC: MO-229; ComponentLink1Description: Manufacturer URL; ComponentLink1URL: http://www.linear.com/; ComponentLink2Description: Datasheet; ComponentLink2URL: http://cds.linear.com/docs/en/datasheet/3630fc.pdf; ComponentLink3Description: Package Specification; ComponentLink3URL: http://cds.linear.com/docs/en/packaging/DFN_16_05-08-1706.pdf
footprint LT-DHC-16_V (SON, 16-Leads, Body 5x3mm, Pitch 0.5mm, Thermal Pad 4.4X1.65mm)
part A pins: 1 SW (power) "Switch Node Connection to Inductor. This pin connects to the drains of the internal power MOSFET switches.", 3 VIN (power) "Main Input Supply Pin. A ceramic bypass capacitor should be tied between this pin and GND.", 5 RUN (in) "Run Control Input. A voltage on this pin above 1.21V enables normal operation. Forcing this pin below 0.7V shuts down the LTC3630, reducing quiescent current to approximately 5uA. Optionally, connect to the input supply (See Datasheet)", 6 VPRG2 (in) "Output Voltage Selection. Short both pins to ground for an external resistive divider programmable output voltage. Short VPRG1 to SS and short VPRG2 to ground for a 5V output voltage. Short VPRG1 to ground and short VPRG2 to (See Datasheet)", 7 VPRG1 (in) "Output Voltage Selection. Short both pins to ground for an external resistive divider programmable output voltage. Short VPRG1 to SS and short VPRG2 to ground for a 5V output voltage. Short VPRG1 to ground and short VPRG2 to (See Datasheet)", 8 GND (power) "Ground. The exposed backside pad must be soldered to the PCB ground plane for optimal thermal performance.", 9 VFB (in) "Output Voltage Feedback. When configured for an adjustable output voltage, connect to an external resistive divider to divide the output voltage down for comparison to the 0.8V reference. For the fixed output configuration, (See Datasheet)", 10 SS (in) "Soft-Start Control Input. A capacitor to ground at this pin sets the output voltage ramp time. A 50uA current initially charges the soft-start capacitor until switching begins, at which time the current is reduced to its (See Datasheet)", 11 ISET (in) "Peak Current Set Input and Voltage Output Ripple Filter. A resistor from this pin to ground sets the peak current comparator threshold. Leave floating for the maximum peak current (1.2A typical) or short to ground for (See Datasheet)", 12 FBO (out) "Feedback Comparator Output. Connect to the VFB pins of additional LTC3630s to combine the output current. The typical pull-up current is 20uA. The typical pull- down impedance is 70 ohm. See Applications Information.", 14 GND (power) "Ground. The exposed backside pad must be soldered to the PCB ground plane for optimal thermal performance.", 16 GND (power) "Ground. The exposed backside pad must be soldered to the PCB ground plane for optimal thermal performance.", 17 EP (power) "Ground. The exposed backside pad must be soldered to the PCB ground plane for optimal thermal performance."
part B pins: 2 NC "No Internal Connection. Leave these pins open.", 4 NC "No Internal Connection. Leave these pins open.", 13 NC "No Internal Connection. Leave these pins open.", 15 NC "No Internal Connection. Leave these pins open."

## LTC3630AMPMSE#PBF
designator U?
High Efficiency, 500 mA Step-Down Converter, 16-pin SOP (MSE-16-V(12)4PR-EDP), -55 to 150 degC, Pb-Free; Manufacturer: Linear Technology; PartNumber: LTC3630AMPMSE#PBF; Number of Outputs: 1; DatasheetVersion: Rev. C; PackageVersion: Rev. D, 05/2013; PackageReference: MSE-16; PackageDescription: 12-Pin Plastic MSOP, Exposed Die Pad, Body 4.039 x 3 mm, Pitch 0.5 mm; Supplier 1: Digi-Key; Supplier Part Number 1: LTC3630AMPMSE#PBF-ND; Supplier 2: Newark; Supplier Part Number 2: 95W3380; RoHS: TRUE; Mounting Technology: Surface Mount; ComponentLink1Description: Manufacturer URL; ComponentLink1URL: http://www.linear.com/; ComponentLink2Description: Datasheet; ComponentLink2URL: http://cds.linear.com/docs/en/datasheet/3630fc.pdf; ComponentLink3Description: Package Specification; ComponentLink3URL: http://cds.linear.com/docs/en/packaging/05081871_D_MSE16(12).pdf
footprint LT-MSE-16-V(12)4PR-EDP_N (SOP, 12-Leads, Body 4.1x3.1mm, Pitch 0.5mm, Thermal Pad 1.76x2.95mm, IPC Medium Density)
footprint LT-MSE-16-V(12)4PR-EDP_L (SOP, 12-Leads, Body 4.1x3.1mm, Pitch 0.5mm, Thermal Pad 1.76x2.95mm, IPC High Density)
footprint LT-MSE-16-V(12)4PR-EDP_M (SOP, 12-Leads, Body 4.1x3.1mm, Pitch 0.5mm, Thermal Pad 1.76x2.95mm, IPC Low Density)
pins: 1 SW (power) "Switch Node Connection to Inductor. This pin connects to the drains of the internal power MOSFET switches.", 3 VIN (power) "Main Input Supply Pin. A ceramic bypass capacitor should be tied between this pin and GND.", 5 RUN (in) "Run Control Input. A voltage on this pin above 1.21V enables normal operation. Forcing this pin below 0.7V shuts down the LTC3630, reducing quiescent current to approximately 5uA. Optionally, connect to the input supply (See Datasheet)", 6 VPRG2 (in) "Output Voltage Selection. Short both pins to ground for an external resistive divider programmable output voltage. Short VPRG1 to SS and short VPRG2 to ground for a 5V output voltage. Short VPRG1 to ground and short VPRG2 to (See Datasheet)", 7 VPRG1 (in) "Output Voltage Selection. Short both pins to ground for an external resistive divider programmable output voltage. Short VPRG1 to SS and short VPRG2 to ground for a 5V output voltage. Short VPRG1 to ground and short VPRG2 to (See Datasheet)", 8 GND (power) "Ground. The exposed backside pad must be soldered to the PCB ground plane for optimal thermal performance.", 9 VFB (in) "Output Voltage Feedback. When configured for an adjustable output voltage, connect to an external resistive divider to divide the output voltage down for comparison to the 0.8V reference. For the fixed output configuration, (See Datasheet)", 10 SS (in) "Soft-Start Control Input. A capacitor to ground at this pin sets the output voltage ramp time. A 50uA current initially charges the soft-start capacitor until switching begins, at which time the current is reduced to its (See Datasheet)", 11 ISET (in) "Peak Current Set Input and Voltage Output Ripple Filter. A resistor from this pin to ground sets the peak current comparator threshold. Leave floating for the maximum peak current (1.2A typical) or short to ground for (See Datasheet)", 12 FBO (out) "Feedback Comparator Output. Connect to the VFB pins of additional LTC3630s to combine the output current. The typical pull-up current is 20uA. The typical pull- down impedance is 70 ohm. See Applications Information.", 14 GND (power) "Ground. The exposed backside pad must be soldered to the PCB ground plane for optimal thermal performance.", 16 GND (power) "Ground. The exposed backside pad must be soldered to the PCB ground plane for optimal thermal performance.", 17 EP (power) "Ground. The exposed backside pad must be soldered to the PCB ground plane for optimal thermal performance."

## LTC3630AMPMSE#TRPBF
designator U?
High Efficiency, 500 mA Step-Down Converter, 16-pin SOP (MSE-16-V(12)4PR-EDP), -55 to 150 degC, Pb-Free, Tape and Reel; Manufacturer: Linear Technology; PartNumber: LTC3630AMPMSE#TRPBF; Number of Outputs: 1; DatasheetVersion: Rev. C; PackageVersion: Rev. D, 05/2013; PackageReference: MSE-16; PackageDescription: 12-Pin Plastic MSOP, Exposed Die Pad, Body 4.039 x 3 mm, Pitch 0.5 mm; Supplier 1: Digi-Key; Supplier Part Number 1: LTC3630AMPMSE#TRPBF-ND; Supplier 2: Newark; Supplier Part Number 2: 95W3381; Packing: Tape and Reel; RoHS: TRUE; Mounting Technology: Surface Mount; ComponentLink1Description: Manufacturer URL; ComponentLink1URL: http://www.linear.com/; ComponentLink2Description: Datasheet; ComponentLink2URL: http://cds.linear.com/docs/en/datasheet/3630fc.pdf; ComponentLink3Description: Package Specification; ComponentLink3URL: http://cds.linear.com/docs/en/packaging/05081871_D_MSE16(12).pdf
footprint LT-MSE-16-V(12)4PR-EDP_N (SOP, 12-Leads, Body 4.1x3.1mm, Pitch 0.5mm, Thermal Pad 1.76x2.95mm, IPC Medium Density)
footprint LT-MSE-16-V(12)4PR-EDP_L (SOP, 12-Leads, Body 4.1x3.1mm, Pitch 0.5mm, Thermal Pad 1.76x2.95mm, IPC High Density)
footprint LT-MSE-16-V(12)4PR-EDP_M (SOP, 12-Leads, Body 4.1x3.1mm, Pitch 0.5mm, Thermal Pad 1.76x2.95mm, IPC Low Density)
pins: 1 SW (power) "Switch Node Connection to Inductor. This pin connects to the drains of the internal power MOSFET switches.", 3 VIN (power) "Main Input Supply Pin. A ceramic bypass capacitor should be tied between this pin and GND.", 5 RUN (in) "Run Control Input. A voltage on this pin above 1.21V enables normal operation. Forcing this pin below 0.7V shuts down the LTC3630, reducing quiescent current to approximately 5uA. Optionally, connect to the input supply (See Datasheet)", 6 VPRG2 (in) "Output Voltage Selection. Short both pins to ground for an external resistive divider programmable output voltage. Short VPRG1 to SS and short VPRG2 to ground for a 5V output voltage. Short VPRG1 to ground and short VPRG2 to (See Datasheet)", 7 VPRG1 (in) "Output Voltage Selection. Short both pins to ground for an external resistive divider programmable output voltage. Short VPRG1 to SS and short VPRG2 to ground for a 5V output voltage. Short VPRG1 to ground and short VPRG2 to (See Datasheet)", 8 GND (power) "Ground. The exposed backside pad must be soldered to the PCB ground plane for optimal thermal performance.", 9 VFB (in) "Output Voltage Feedback. When configured for an adjustable output voltage, connect to an external resistive divider to divide the output voltage down for comparison to the 0.8V reference. For the fixed output configuration, (See Datasheet)", 10 SS (in) "Soft-Start Control Input. A capacitor to ground at this pin sets the output voltage ramp time. A 50uA current initially charges the soft-start capacitor until switching begins, at which time the current is reduced to its (See Datasheet)", 11 ISET (in) "Peak Current Set Input and Voltage Output Ripple Filter. A resistor from this pin to ground sets the peak current comparator threshold. Leave floating for the maximum peak current (1.2A typical) or short to ground for (See Datasheet)", 12 FBO (out) "Feedback Comparator Output. Connect to the VFB pins of additional LTC3630s to combine the output current. The typical pull-up current is 20uA. The typical pull- down impedance is 70 ohm. See Applications Information.", 14 GND (power) "Ground. The exposed backside pad must be soldered to the PCB ground plane for optimal thermal performance.", 16 GND (power) "Ground. The exposed backside pad must be soldered to the PCB ground plane for optimal thermal performance.", 17 EP (power) "Ground. The exposed backside pad must be soldered to the PCB ground plane for optimal thermal performance."